# Altium schematic symbol library resistors.SchLib: 5 symbols
Pins are listed as number, name and electrical type; pins without a type are passive.

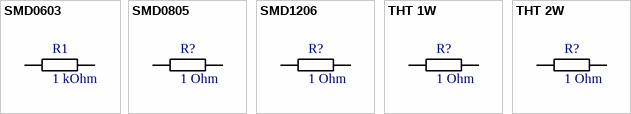
[diagram p0: symbols SMD0603 to THT 2W]

## SMD0603
designator R1, comment 1 kOhm
Resistor 0.125W
footprint SMD0603 (0.125W)
pins: 1, 2

## SMD0805
designator R?, comment 1 Ohm
Resistor 0.125W
footprint SMD0805 (0.125W)
pins: 1, 2

## SMD1206
designator R?, comment 1 Ohm
Resistor 0.25W
footprint SMD1206 (0.25W)
pins: 1, 2

## THT 1W
designator R?, comment 1 Ohm
Resistor 1W
footprint THT 1W (Horizontal mounting)
pins: 1, 2

## THT 2W
designator R?, comment 1 Ohm
Resistor 1W
footprint THT 2W (Horizontal mounting)
pins: 1, 2